# EAGLE library part 0874271042 (library NASA_LIB)
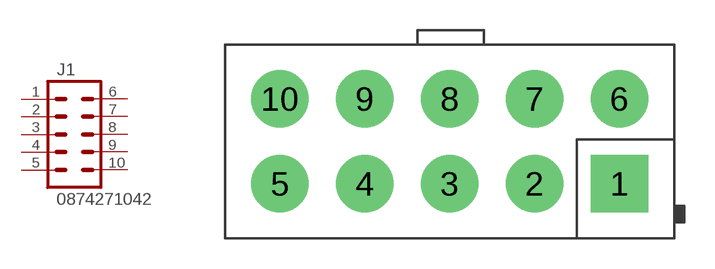
[diagram p30: symbol with the pads of 0874271042; footprint 0874271042]

Designator prefix J1

## 0874271042  [0874271042]
1  1  pas
2  2  pas
3  3  pas
4  4  pas
5  5  pas
6  6  pas
7  7  pas
8  8  pas
9  9  pas
10  10  pas

## Footprint 0874271042 (pad centres in mm)
drill 1.9 square: 1 8.4,-2.1
drill 1.9: 2 4.2,-2.1; 3 0,-2.1; 4 -4.2,-2.1; 5 -8.4,-2.1; 6 8.4,2.1; 7 4.2,2.1; 8 0,2.1; 9 -4.2,2.1; 10 -8.4,2.1